# EAGLE library part ADXL320_BREAKOUT_HEADER (library m_connector)
ADXL320 Breakout Header Standard 6-pin 0.1" header used with SparkFun Electronics' ADXL3xx series breakout headers.
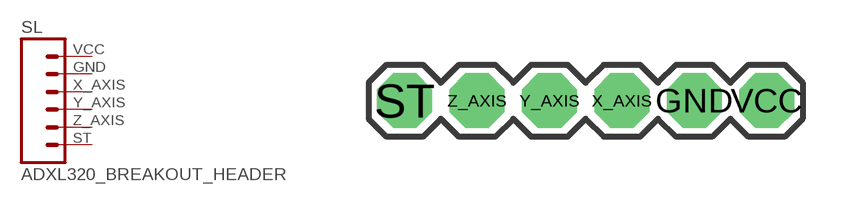
[diagram p0: symbol with the pads of 1X06; footprint 1X06]

Designator prefix SL

## ADXL320_BREAKOUT_HEADERSIP  [1X06]
GND  GND  pwr
ST  ST
VCC  VCC  pwr
X_AXIS  X_AXIS
Y_AXIS  Y_AXIS
Z_AXIS  Z_AXIS

## Footprint 1X06 (pad centres in mm)
drill 1.016 pad 1.93 octagon: GND 10.16,0; ST 0,0; VCC 12.7,0; X_AXIS 7.62,0; Y_AXIS 5.08,0; Z_AXIS 2.54,0